# EAGLE library part AD780 (library kimth)
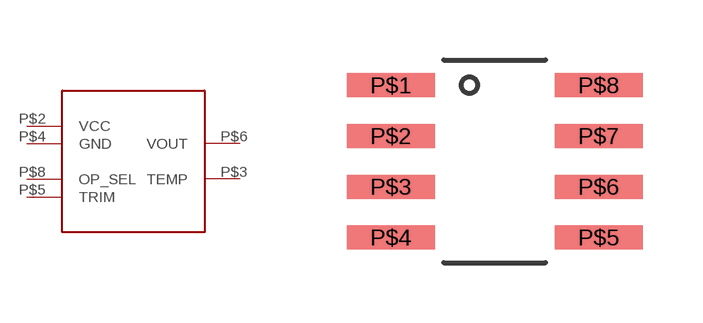
[diagram p0: symbol with the pads of SOIC-8; footprint SOIC-8]

Designator prefix -

## AD780  [SOIC-8]
P$2  VCC
P$3  TEMP
P$4  GND
P$5  TRIM
P$6  VOUT
P$8  OP_SEL

## Footprint SOIC-8 (pad centres in mm)
smd 2.2 x 0.6: P$1 -2.6,1.905; P$2 -2.6,0.635; P$3 -2.6,-0.635; P$4 -2.6,-1.905; P$5 2.6,-1.905; P$6 2.6,-0.635; P$7 2.6,0.635; P$8 2.6,1.905